# Altium schematic symbol library TPD.SchLib: 1 symbol
Pins are listed as number, name and electrical type; pins without a type are passive.

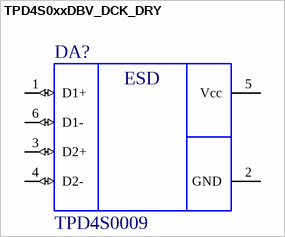
[diagram p0: symbol TPD4S0xxDBV_DCK_DRY]

## TPD4S0xxDBV_DCK_DRY
designator DA?, comment TPD4S0009
4-Chanel ESD solution; ValueSch: TPD4S0009
pins: 1 D1+ (io), 2 GND (power), 3 D2+ (io), 4 D2- (io), 5 Vcc (power), 6 D1- (io)
text: ESD